# EAGLE library part N+P_MOSFET (library transistors)
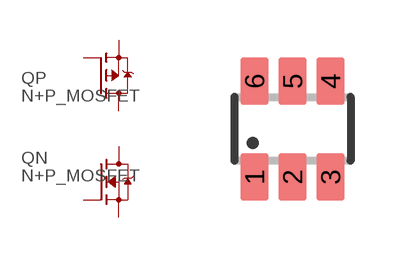
[diagram p2: symbol with the pads of TSOT26; footprint TSOT26]

Designator prefix Q; gates N=N-MOSFET P=P-MOSFET

## N+P_MOSFET  [TSOT26]
1  N:G  pas
2  P:S  pas
3  P:G  pas
4  P:D  pas
5  N:S  pas
6  N:D  pas

## Footprint TSOT26 (pad centres in mm)
smd 0.7 x 1.2: 1 -0.95,-1.2; 2 0,-1.2; 3 0.95,-1.2; 4 0.95,1.2; 5 0,1.2; 6 -0.95,1.2